# Altium schematic symbol library Nucleo_shield_strato.SCHLIB: 19 symbols
Pins are listed as number, name and electrical type; pins without a type are passive.

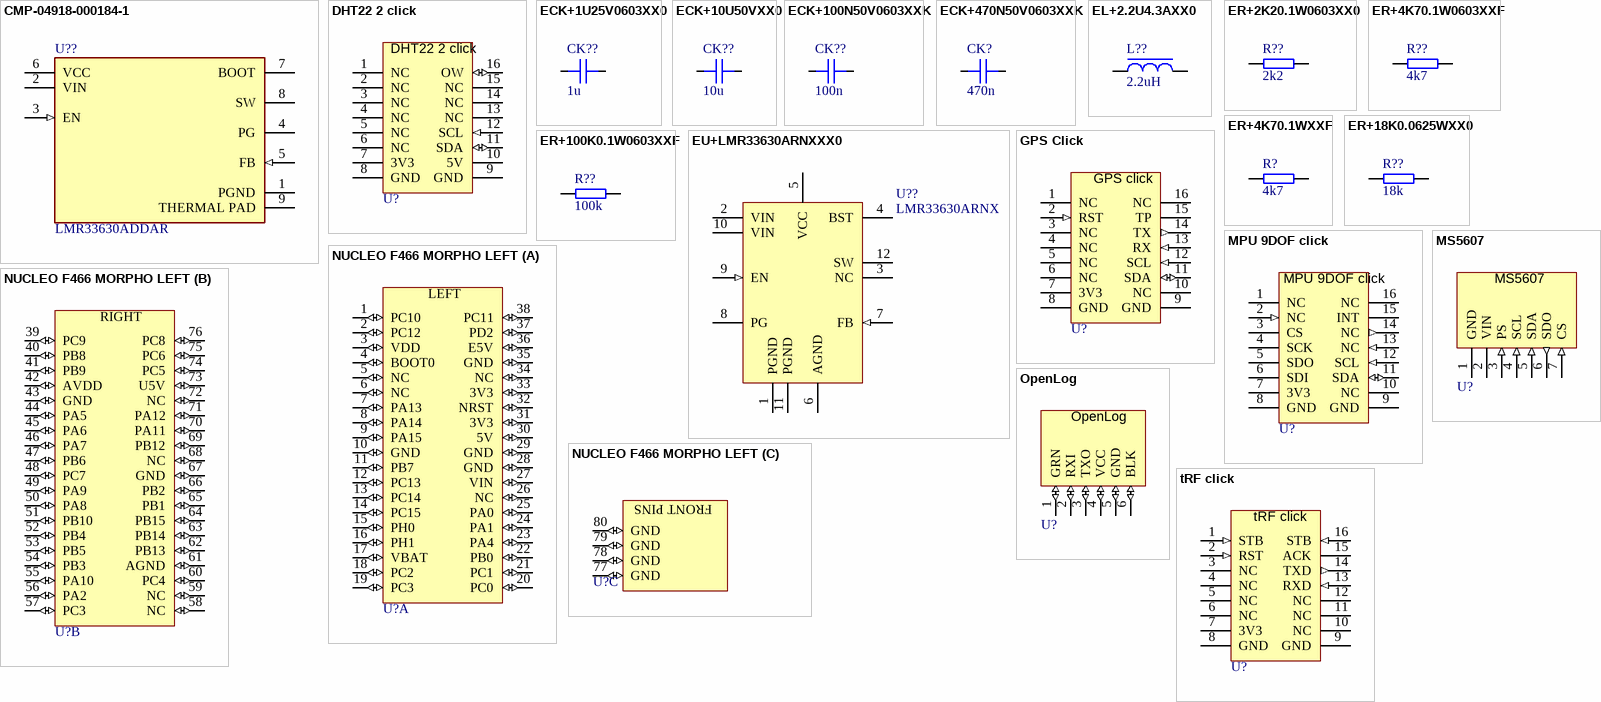
[diagram p0: symbols CMP-04918-000184-1 to tRF click]

## CMP-04918-000184-1
designator U??, comment LMR33630ADDAR
IC REG BUCK ADJUSTABLE 3A 8SOPWR; Manufacturer: Texas Instruments; Switching Frequency: 400kHz; Number of Outputs: 1; Output Configuration: Positive; Synchronous Rectifier: Yes; Min Output Voltage: 1V; Max Output Voltage: 24V; Max Input Voltage: 36V; Min Input Voltage: 3.8V; Output Current: 3A; Min Operating Temperature: -40°C; Max Operating Temperature: 125°C; Number of Pins: 8; RoHS Compliant: Yes; Mount: Surface Mount; Output Type: Adjustable; Packaging: Cut Tape; Manufacturer Part Number: LMR33630ADDAR
footprint FP-DDA0008J-MFG
footprint FP-DDA0008J-IPC_B
footprint FP-DDA0008J-IPC_C
footprint FP-DDA0008J-IPC_A
pins: 1 PGND (power), 2 VIN (power), 3 EN (in), 4 PG (oc), 5 FB (in), 6 VCC (power), 7 BOOT, 8 SW, 9 THERMAL PAD

## DHT22 2 click
designator U?  (value not drawn)
footprint DHT22 2 click (DHT22 click footprint)
pins: 1 NC (hiz), 2 NC (hiz), 3 NC (hiz), 4 NC (hiz), 5 NC (hiz), 6 NC (hiz), 7 3V3 (power), 8 GND (power), 9 GND (power), 10 5V (power), 11 SDA (io), 12 SCL (in), 13 NC (hiz), 14 NC (hiz), 15 NC (hiz), 16 OW (io)

## ECK+1U25V0603XX0
designator CK??, comment 1u
C; 1u; 25V; 10%; X7R; ??;; Manufacturer: Samsung: CL10B105KA8NNNC; KK: ECK+1U25V0603XX0; Note: X7R, 0.6uF @ 10V, 0.85uF @ 5V; Component_Class: Capacitor; Status_I: Production; Status_II: Active; Tolerance_Pct: 10; Voltage_Rating_V: 25; Capacitance_F: 1E-6; Value: 1u; SMD: 1; ComponentLink2URL: I:\DataSheets\ECK+1U25V0603XX0_SamsungEN100.pdf; ComponentLink2Description: ECK+1U25V0603XX0_SamsungEN100.pdf; Dielectric_Type: X7R; ComponentLink1URL: heliosgreen://v1/hegMT/5-MT/Classes(343)/Folders/OpenForm?RecordNumbers=[15270070]; ComponentLink1Description: Helios
footprint CAPC1608X09N(SMC0603)
simulation model Simple (Ideal Capacitor Model)
pins: 1, 2

## ECK+10U50VXX0
designator CK??, comment 10u
C; 10u; 50V; 10%; X7R; ??;; Manufacturer: Murata: GRM32ER71H106KA12L;;Samsung Electro-mechanics: CL32B106KBJNNNE; KK: ECK+10U50VXX0; Note: X7R, 9uF @ 10V, 5uF @ 30V, 2.5uF @ 50V; Component_Class: Capacitor; Status_I: Production; Status_II: Active; Tolerance_Pct: 10; Voltage_Rating_V: 50; Capacitance_F: 1E-5; Value: 10u; SMD: 1; ComponentLink2URL: I:\DataSheets\ECK+10U50VXX0_MurataEN100.pdf; ComponentLink2Description: ECK+10U50VXX0_MurataEN100.pdf; ComponentLink3URL: I:\DataSheets\ECK+10U50VXX0_SamsungEN100.pdf; ComponentLink3Description: ECK+10U50VXX0_SamsungEN100.pdf; Dielectric_Type: X7R; ComponentLink1URL: heliosgreen://v1/hegMT/5-MT/Classes(343)/Folders/OpenForm?RecordNumbers=[10658879]; ComponentLink1Description: Helios
footprint CAPC3225X27N(SMC1210)
simulation model CL32B106KBJNNN (Advanced Model Verified)
pins: 1, 2

## ECK+100N50V0603XXK
designator CK??, comment 100n
C; 100n; 50V; 10%; X7R; ??;; Manufacturer: SAMSUNG EM: CL10B104KB8NNNC;;SAMSUNG EM: CL10B104KB8NNNO;;SAMSUNG EM: CL10B104KB8NNND; KK: ECK+100N50V0603XXK; Component_Class: Capacitor; Status_I: Production; Status_II: Active; Tolerance_Pct: 10; Voltage_Rating_V: 50; Capacitance_F: 1E-7; Value: 100n; SMD: 1; ComponentLink2URL: i:\datasheets\ECK+100N50V0603XXK_SamsungEN100.pdf; ComponentLink2Description: ECK+100N50V0603XXK_SamsungEN100.pdf; ComponentLink3URL: I:\datasheets\ECK+100N50V0603XXK_Samsung_2EN100.pdf.pdf; ComponentLink3Description: ECK+100N50V0603XXK_Samsung_2EN100.pdf.pd; Dielectric_Type: X7R; ComponentLink1URL: heliosgreen://v1/hegMT/5-MT/Classes(343)/Folders/OpenForm?RecordNumbers=[6094397]; ComponentLink1Description: Helios
footprint CAPC1608X09N(SMC0603)
simulation model CL10B104KB8NNN (Advanced Model Verified)
pins: 1, 2

## ECK+470N50V0603XXK
designator CK?, comment 470n
C; 470n; 50V; 10%; X7R; ??;; KK: ECK+470N50V0603XXK
footprint CAPC1608X09N(SMC0603)
simulation model C1608X7R1H474K080AC_p (Advanced Model Verified)
pins: 1, 2

## EL+2.2U4.3AXX0
designator L??, comment 2.2uH
L; 2.2uH; 4.3A; 20%; 0.048Ohm; Fe; 1x;; Manufacturer: Pulse: PA4332.222NLT; KK: EL+2.2U4.3AXX0; Component_Class: Inductor; Status_I: Development; Status_II: Testing; Tolerance_Pct: 20; Multiplicity: 1; Resistance_Ohm: 0.048; Current_Rating_A: 4.3; Inductance_H: 2.2E-6; Value: 2.2uH; SMD: 1; ComponentLink2URL: I:\DataSheets\EL+2.2U4.3AXX0_Pulse_EN100.pdf; ComponentLink2Description: EL+2.2U4.3AXX0_Pulse_EN100.pdf; Core_Material: Fe; ComponentLink1URL: heliosgreen://v1/hegMT/5-MT/Classes(343)/Folders/OpenForm?RecordNumbers=[15098024]; ComponentLink1Description: Helios
footprint INDP4242X20N
simulation model Simple (Ideal Inductor Model)
pins: 1 L1A, 2 L1B

## ER+2K20.1W0603XX0
designator R??, comment 2k2
R; 2k2; 0.1W; 1%; 75V; Thick Film; ±100ppm/K; 1x;; Manufacturer: Yageo: RC0603FR-072K2L;;Vishay: CRCW06032K20FKEA;;KOA Speer: RK73H1JTTD2201F;;Bourns: CR0603-FX-2201ELF; KK: ER+2K20.1W0603XX0; Component_Class: Resistor; Status_I: Production; Status_II: Active; Tolerance_Pct: 1; Voltage_Rating_V: 75; Resistance_Ohm: 2200; Power_Rating_W: 0.1; Temperature_Coefficient_PPMpK: ±100; Value: 2k2; SMD: 1; ComponentLink2URL: I:\DataSheets\ER+2K20.1W0603XX0_YageoEN100.pdf; ComponentLink2Description: ER+2K20.1W0603XX0_YageoEN100.pdf; ComponentLink3URL: I:\DataSheets\ER+2K20.1W0603XX0_VishayEN100.pdf; ComponentLink3Description: ER+2K20.1W0603XX0_VishayEN100.pdf; ComponentLink4URL: I:\DataSheets\ER+2K20.1W0603XX0_KOA SpeerEN100.pdf; ComponentLink4Description: ER+2K20.1W0603XX0_KOA SpeerEN100.pdf; ComponentLink5URL: I:\DataSheets\ER+2K20.1W0603XX0_BournsEN100.pdf; ComponentLink5Description: ER+2K20.1W0603XX0_BournsEN100.pdf; Multiplicity: 1; Resistor_Type: Thick Film; ComponentLink1URL: heliosgreen://v1/hegMT/5-MT/Classes(343)/Folders/OpenForm?RecordNumbers=[14964353]; ComponentLink1Description: Helios
footprint RESC1608X06N(SMR0603)
simulation model Simple (Ideal Resistor Model)
pins: 1, 2

## ER+4K70.1W0603XXF
designator R??, comment 4k7
R; 4k7; 0.1W; 1%; 50V; Thick Film; ±100ppm/K; 1x;; Manufacturer: ASJ: CR16-4701-FL;;ASJ: CR16-4701-FK;;ASJ: CR16-4701-FY; KK: ER+4K70.1W0603XXF; Component_Class: Resistor; Status_I: Production; Status_II: Active; Tolerance_Pct: 1; Voltage_Rating_V: 50; Resistance_Ohm: 4700; Power_Rating_W: 0.1; Temperature_Coefficient_PPMpK: ±100; Value: 4k7; SMD: 1; ComponentLink2URL: I:\datasheets\ER+xxxx0.1W0603XXx_ASJEN100.pdf; ComponentLink2Description: ER+xxxx0.1W0603XXx_ASJEN100.pdf; Multiplicity: 1; Resistor_Type: Thick Film; ComponentLink1URL: heliosgreen://v1/hegMT/5-MT/Classes(343)/Folders/OpenForm?RecordNumbers=[6094806]; ComponentLink1Description: Helios
footprint RESC1608X06N(SMR0603)
simulation model Simple (Ideal Resistor Model)
pins: 1, 2

## ER+4K70.1WXXF
designator R?, comment 4k7
R; 4k7; 0.125W; 1%; 150V; Thick Film; ±100ppm/K; 1x;; KK: ER+4K70.1WXXF
footprint RESC2012X06N(SMR0805)
simulation model Simple (Ideal Resistor Model)
pins: 1, 2

## ER+18K0.0625WXX0
designator R??, comment 18k
R; 18k; 0.0625W; 1%; 50V; Thick Film; ±100ppm/K; 1x;; Manufacturer: Yageo: RC0402FR-0718KL; KK: ER+18K0.0625WXX0; Component_Class: Resistor; Status_I: Development; Status_II: Active; Tolerance_Pct: 1; Voltage_Rating_V: 50; Resistance_Ohm: 18000; Power_Rating_W: 0.0625; Temperature_Coefficient_PPMpK: ±100; Value: 18k; SMD: 1; ComponentLink2URL: I:\DataSheets\ER+18K0.0625WXX0_YageoEN100.pdf; ComponentLink2Description: ER+18K0.0625WXX0_YageoEN100.pdf; Multiplicity: 1; Resistor_Type: Thick Film; ComponentLink1URL: heliosgreen://v1/hegMT/5-MT/Classes(343)/Folders/OpenForm?RecordNumbers=[9205644]; ComponentLink1Description: Helios
footprint RESC1005X04N(SMR0402)
footprint RESC1005X04L(SMR0402)
simulation model Simple (Ideal Resistor Model)
pins: 1, 2

## ER+100K0.1W0603XXF
designator R??, comment 100k
R; 100k; 0.1W; 1%; 50V; Thick Film; ±100ppm/K; 1x;; Manufacturer: ASJ: CR16-1003-FL;;ASJ: CR16-1003-FK;;ASJ: CR16-1003-FY; KK: ER+100K0.1W0603XXF; Component_Class: Resistor; Status_I: Production; Status_II: Active; Tolerance_Pct: 1; Voltage_Rating_V: 50; Resistance_Ohm: 100000; Power_Rating_W: 0.1; Temperature_Coefficient_PPMpK: ±100; Value: 100k; SMD: 1; ComponentLink2URL: I:\datasheets\ER+xxxx0.1W0603XXx_ASJEN100.pdf; ComponentLink2Description: ER+xxxx0.1W0603XXx_ASJEN100.pdf; Multiplicity: 1; Resistor_Type: Thick Film; ComponentLink1URL: heliosgreen://v1/hegMT/5-MT/Classes(343)/Folders/OpenForm?RecordNumbers=[6094847]; ComponentLink1Description: Helios
footprint RESC1608X06N(SMR0603)
simulation model Simple (Ideal Resistor Model)
pins: 1, 2

## EU+LMR33630ARNXXX0
designator U??, comment LMR33630ARNX
IC; SMPS Regulator/Controller; 3.8V; 36V; 1x;; Manufacturer: Texas Instruments: LMR33630ARNXR;;Texas Instruments: LMR33630ARNXT; KK: EU+LMR33630ARNXXX0; Note: 3-A Synchronous Step-Down Voltage Converter; Status_I: Production; Status_II: Active; Multiplicity: 1; Vmin_V: 3.8; Vmax_V: 36; Value: LMR33630ARNX; Component_Class: IC; SMD: 1; ComponentLink2URL: I:\DataSheets\EU+LMR33630ARNXXX0_TexasInstrumentsEN100.pdf; ComponentLink2Description: EU+LMR33630ARNXXX0_TexasInstrumentsEN100; IC_Type: SMPS Regulator/Controller; ComponentLink1URL: heliosgreen://v1/hegMT/5-MT/Classes(343)/Folders/OpenForm?RecordNumbers=[12689791]; ComponentLink1Description: Helios
footprint QFN50P200X300X100-12N
pins: 1 PGND (power), 2 VIN (power), 3 NC, 4 BST, 5 VCC (power), 6 AGND (power), 7 FB (in), 8 PG (oc), 9 EN (in), 10 VIN (power), 11 PGND (power), 12 SW

## GPS Click
designator U?  (value not drawn)
footprint GPS click (base footprint w/o model)
pins: 1 NC (hiz), 2 RST (in), 3 NC (hiz), 4 NC (hiz), 5 NC (hiz), 6 NC (hiz), 7 3V3 (power), 8 GND (power), 9 GND (power), 10 NC (oe), 11 SDA (io), 12 SCL (in), 13 RX (in), 14 TX (out), 15 TP (hiz), 16 NC (hiz)
text: GPS click

## MPU 9DOF click
designator U?  (value not drawn)
footprint MPU 9DOF click (MPU9520 footprint)
pins: 1 NC (hiz), 2 NC (in), 3 CS (hiz), 4 SCK (hiz), 5 SDO (hiz), 6 SDI (hiz), 7 3V3 (power), 8 GND (power), 9 GND (power), 10 NC (oe), 11 SDA (io), 12 SCL (in), 13 NC (in), 14 NC (out), 15 INT (hiz), 16 NC (hiz)

## MS5607
designator U?  (value not drawn)
footprint MS5607
pins: 1 GND (power), 2 VIN (power), 3 PS (in), 4 SCL (in), 5 SDA (in), 6 SDO (out), 7 CS (in)

## NUCLEO F466 MORPHO LEFT
designator U?  (value not drawn)
footprint NC
part A pins: 1 PC10 (io), 2 PC12 (io), 3 VDD (io), 4 BOOT0 (io), 5 NC (io), 6 NC (io), 7 PA13 (io), 8 PA14 (io), 9 PA15 (io), 10 GND (io), 11 PB7 (io), 12 PC13 (io), 13 PC14 (io), 14 PC15 (io), 15 PH0 (io), 16 PH1 (io), 17 VBAT (io), 18 PC2 (io), 19 PC3 (io), 20 PC0 (io), 21 PC1 (io), 22 PB0 (io), 23 PA4 (io), 24 PA1 (io), 25 PA0 (io), 26 NC (io), 27 VIN (io), 28 GND (io), 29 GND (io), 30 5V (io), 31 3V3 (io), 32 NRST (io), 33 3V3 (io), 34 NC (io), 35 GND (io), 36 E5V (io), 37 PD2 (io), 38 PC11 (io)
part B pins: 39 PC9 (io), 40 PB8 (io), 41 PB9 (io), 42 AVDD (io), 43 GND (io), 44 PA5 (io), 45 PA6 (io), 46 PA7 (io), 47 PB6 (io), 48 PC7 (io), 49 PA9 (io), 50 PA8 (io), 51 PB10 (io), 52 PB4 (io), 53 PB5 (io), 54 PB3 (io), 55 PA10 (io), 56 PA2 (io), 57 PC3 (io), 58 NC (io), 59 NC (io), 60 PC4 (io), 61 AGND (io), 62 PB13 (io), 63 PB14 (io), 64 PB15 (io), 65 PB1 (io), 66 PB2 (io), 67 GND (io), 68 NC (io), 69 PB12 (io), 70 PA11 (io), 71 PA12 (io), 72 NC (io), 73 U5V (io), 74 PC5 (io), 75 PC6 (io), 76 PC8 (io)
part C pins: 77 GND (io), 78 GND (io), 79 GND (io), 80 GND (io)
part A text: LEFT
part B text: RIGHT
part C text: FRONT PINS

## OpenLog
designator U?  (value not drawn)
footprint OpenLog
pins: 1 GRN (io), 2 RXI (io), 3 TXO (io), 4 VCC (io), 5 GND (io), 6 BLK (io)

## tRF click
designator U?  (value not drawn)
footprint tRF click (base footprint w/o model)
pins: 1 STB (in), 2 RST (in), 3 NC (hiz), 4 NC (hiz), 5 NC (hiz), 6 NC (hiz), 7 3V3 (power), 8 GND (power), 9 GND (power), 10 NC (hiz), 11 NC (hiz), 12 NC (hiz), 13 RXD (in), 14 TXD (out), 15 ACK (hiz), 16 STB (in)